# Altium footprint library TB007-508-02BE.PcbLib: 1 footprints
Each footprint in its own frame and in the unit in brackets; x right, y up, seen from the top. Pads: shape width x height; smd on the part's side, far side on the other; paste and mask are expansions set on the pad; w line width, h text height; cw(c..) or ccw(c..) is an arc to the next point about the centre after c.
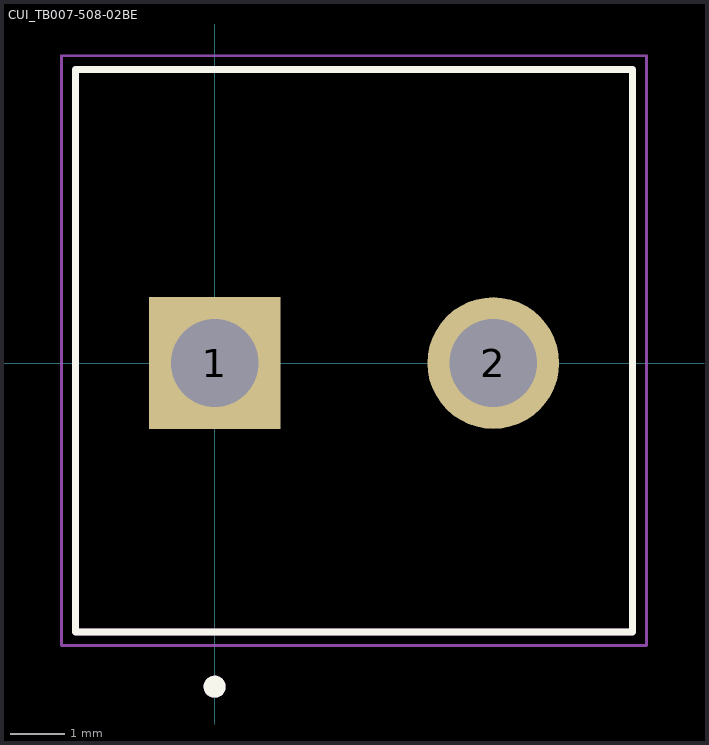
[diagram p0: the footprint, top view; thin cyan lines are the x and y axes]

## CUI_TB007-508-02BE [mm]
pads (2):
  rect 2.4x2.4 hole 1.6: 1(0,0)
  round 2.4 hole 1.6: 2(5.08,0)
Top Overlay:
  circle w0.2: c0,-5.9 r0.1
  lines w0.127: -2.54,-4.9 7.62,-4.9 7.62,5.35 -2.54,5.35 -2.54,-4.9
Mechanical 13:
  circle w0.2: c0,-5.9 r0.1
  lines w0.127: -2.54,-4.9 7.62,-4.9 7.62,5.35 -2.54,5.35 -2.54,-4.9
Mechanical 15:
  lines w0.05: -2.79,-5.15 -2.79,5.6 7.87,5.6 7.87,-5.15 -2.79,-5.15
3D body "CUI_DEVICES_TB007-508-02BE.step": height 14, standoff -3.7, extent -3.175,-4.998 7.585,5.252